# Altium footprint library ARM_Libary_USB_to_RS232.PcbLib: 24 footprints (part 2 of 2)
Each footprint in its own frame and in the unit in brackets; x right, y up, seen from the top. Pads: shape width x height; smd on the part's side, far side on the other; paste and mask are expansions set on the pad; w line width, h text height; cw(c..) or ccw(c..) is an arc to the next point about the centre after c.
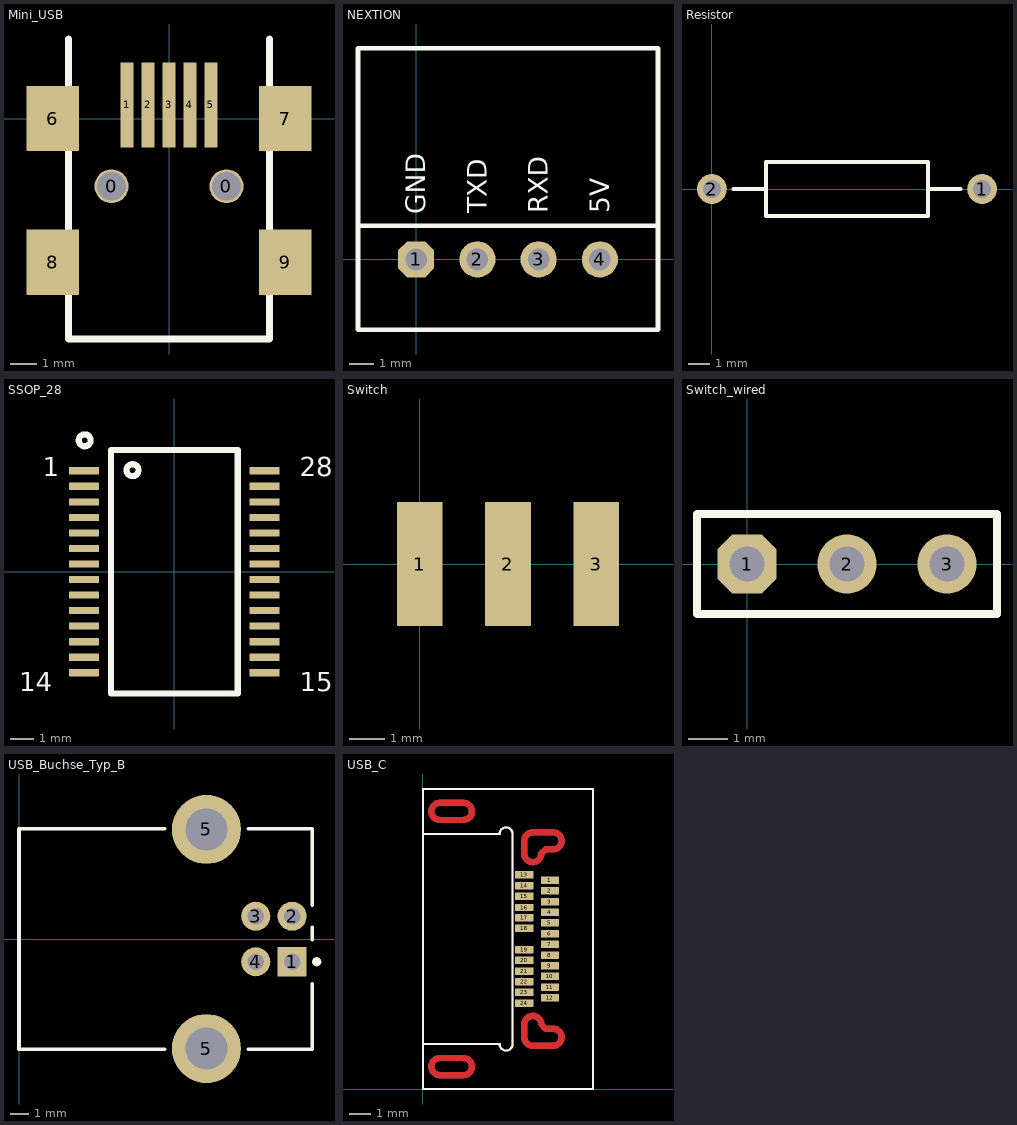
[diagram p1: the footprints below, top view; thin cyan lines are the x and y axes]

## Mini_USB [mm]
pads (11):
  round 1.3 hole 1.1: 0(-2.2,-2.59) 0(2.2,-2.59)
  rect 0.5x3.25 smd: 1(-1.6,0.525) 2(-0.8,0.525) 3(0,0.525) 4(0.8,0.525) 5(1.6,0.525)
  rect 2x2.5 smd: 6(-4.45,0) 7(4.45,0) 8(-4.45,-5.5) 9(4.45,-5.5)
Top Overlay:
  lines w0.254: -3.85,3.048 -3.85,-8.44 3.85,-8.44 3.85,3.048

## NEXTION [mm] "Connector; Header; 4 Position"
pads (4):
  oct 1.5x1.5 hole 0.9: 1(0,0)
  round 1.5 hole 0.9: 2(2.54,0) 3(5.08,0) 4(7.62,0)
Top Overlay:
  lines w0.2: 7.62,8.763 -2.413,8.763 ; 10.033,2.159 10.033,8.763 -2.413,8.763 ; -2.413,1.397 -2.413,-2.921 10.033,-2.921 10.033,1.016 10.033,2.286 10.033,1.397 -2.413,1.397 ; -2.413,1.397 -2.413,8.763
  text "5V" at 8.001,1.905 h0.8
  text "RXD" at 5.461,1.905 h0.8
  text "TXD" at 2.921,1.905 h0.8
  text "GND" at 0.381,1.882 h0.8

## Resistor [mm] "bedrahtet"
height 2.5
pads (2):
  round 1.4 hole 0.85: 1(12.7,0) 2(0,0)
Top Overlay:
  lines w0.2: 1.016,0 2.54,0 ; 10.16,0 11.684,0 ; 2.54,-1.27 10.16,-1.27 10.16,1.27 2.54,1.27 2.54,-1.27

## SSOP_28 [mm] "FTDI - FT232RL"
height 2
pads (28):
  rect 1.25x0.3 smd: 1(-3.775,4.225) 2(-3.775,3.575) 3(-3.775,2.925) 4(-3.775,2.275) 5(-3.775,1.625) 6(-3.775,0.975) 7(-3.775,0.325) 8(-3.775,-0.325) 9(-3.775,-0.975) 10(-3.775,-1.625) 11(-3.775,-2.275) 12(-3.775,-2.925) 13(-3.775,-3.575) 14(-3.775,-4.225) 15(3.775,-4.225) 16(3.775,-3.575) 17(3.775,-2.925) 18(3.775,-2.275) 19(3.775,-1.625) 20(3.775,-0.975) 21(3.775,-0.325) 22(3.775,0.325) 23(3.775,0.975) 24(3.775,1.625) 25(3.775,2.275) 26(3.775,2.925) 27(3.775,3.575) 28(3.775,4.225)
Top Overlay:
  circle w0.254: c-1.75,4.25 r0.25
  circle w0.254: c-3.75,5.5 r0.25
  lines w0.254: -2.65,-5.1 -2.65,5.1 2.65,5.1 2.65,-5.1 -2.65,-5.1
  text "1" at -5.5,4 h0.8
  text "14" at -6.5,-5 h0.8
  text "28" at 5.25,4 h0.8
  text "15" at 5.25,-5 h0.8

## Switch [mm]
height 1
pads (3):
  rect 1.3x3.5 smd: 1(0,0) 2(2.5,0) 3(5,0)

## Switch_wired [mm] "Connector; Header; 3 Position"
pads (3):
  oct 1.5x1.5 hole 0.9: 1(0,0)
  round 1.5 hole 0.9: 2(2.54,0) 3(5.08,0)
Top Overlay:
  lines w0.2: -1.27,-1.27 -1.27,1.27 6.35,1.27 6.35,-1.27 -1.27,-1.27

## USB_Buchse_Typ_B [mm] "USB Buchse Typ B"
height 10.95
pads (6):
  rect 1.6x1.6 hole 0.92: 1(15.01,-1.25)
  round 1.6 hole 0.92: 2(15.01,1.25) 3(13.01,1.25) 4(13.01,-1.25)
  round 3.8 hole 2.3: 5(10.3,-6.02) 5(10.3,6.02)
Top Overlay:
  circle w0.25: c16.36,-1.25 r0.125
  lines w0.2: 8,-6.05 0,-6.05 0,6.05 8,6.05 ; 12.6,-6.05 16.12,-6.05 16.12,-2.45 ; 12.6,6.05 16.12,6.05 16.12,1.85 ; 16.12,-0.05 16.12,0.65

## USB_C [mm] "SON, 24-Leads, Body 9,93x8,22mm, Pitch 0,50mm, IPC Medium Density"
height 3.6
pads (24):
  rect 0.85x0.35 smd mask+0: 1(5.95,9.775) 2(5.95,9.275) 3(5.95,8.775) 4(5.95,8.275) 5(5.95,7.775) 6(5.95,7.275) 7(5.95,6.775) 8(5.95,6.275) 9(5.95,5.775) 10(5.95,5.275) 11(5.95,4.775) 12(5.95,4.275) 13(4.75,10.025) 14(4.75,9.525) 15(4.75,9.025) 16(4.75,8.5) 17(4.75,8.025) 18(4.75,7.525) 19(4.75,6.525) 20(4.75,6.025) 21(4.75,5.525) 22(4.75,5.025) 23(4.75,4.525) 24(4.75,4.025)
Top Layer:
  lines w0.3: 5.55,11.025 cw(c5.15,11.025) 4.75,11.02 4.75,11.62 cw(c5.15,11.62) 5.15,12.02 6.1,12.02 cw(c6.1,11.62) 6.1,11.22 5.75,11.22 5.55,11.034 ; 5.712,2.851 5.55,3.025 ccw(c5.15,3.025) 4.75,3.025 4.75,2.425 ccw(c5.15,2.425) 5.15,2.025 6.1,2.025 ccw(c6.1,2.425) 6.1,2.825 5.75,2.825 ; 0.8,0.65 cw(c0.8,1.05) 0.8,1.45 1.9,1.45 cw(c1.9,1.05) 1.9,0.65 0.8,0.65 ; 0.8,12.6 cw(c0.8,13) 0.8,13.4 1.9,13.4 cw(c1.9,13) 1.9,12.6 0.8,12.6
Bottom Layer:
  lines w0.3: 5.55,11.025 cw(c5.15,11.025) 4.75,11.02 4.75,11.62 cw(c5.15,11.62) 5.15,12.02 6.1,12.02 cw(c6.1,11.62) 6.1,11.22 5.75,11.22 5.55,11.034 ; 5.712,2.851 5.55,3.025 ccw(c5.15,3.025) 4.75,3.025 4.75,2.425 ccw(c5.15,2.425) 5.15,2.025 6.1,2.025 ccw(c6.1,2.425) 6.1,2.825 5.75,2.825 ; 0.8,0.65 cw(c0.8,1.05) 0.8,1.45 1.9,1.45 cw(c1.9,1.05) 1.9,0.65 0.8,0.65 ; 0.8,12.6 cw(c0.8,13) 0.8,13.4 1.9,13.4 cw(c1.9,13) 1.9,12.6 0.8,12.6
Top Overlay:
  lines w0.1: 0,0 0,14.05 7.975,14.05 7.975,0 0,0 ; 0,2.1 0,11.95 3.6,11.95 cw(c3.9,11.95) 4.2,11.95 4.2,2.1 cw(c3.9,2.1) 3.6,2.1 0,2.1
Mechanical 1:
  lines w0.1: 0,2.1 3.6,2.1 ccw(c3.9,2.1) 4.2,2.1 4.2,11.95 ccw(c3.9,11.95) 3.6,11.95 0,11.95 0,2.1